# Altium footprint library Connector_Hirose.PcbLib: 136 footprints (part 5 of 9)
Each footprint in its own frame and in the unit in brackets; x right, y up, seen from the top. Pads: shape width x height; smd on the part's side, far side on the other; paste and mask are expansions set on the pad; w line width, h text height; cw(c..) or ccw(c..) is an arc to the next point about the centre after c.
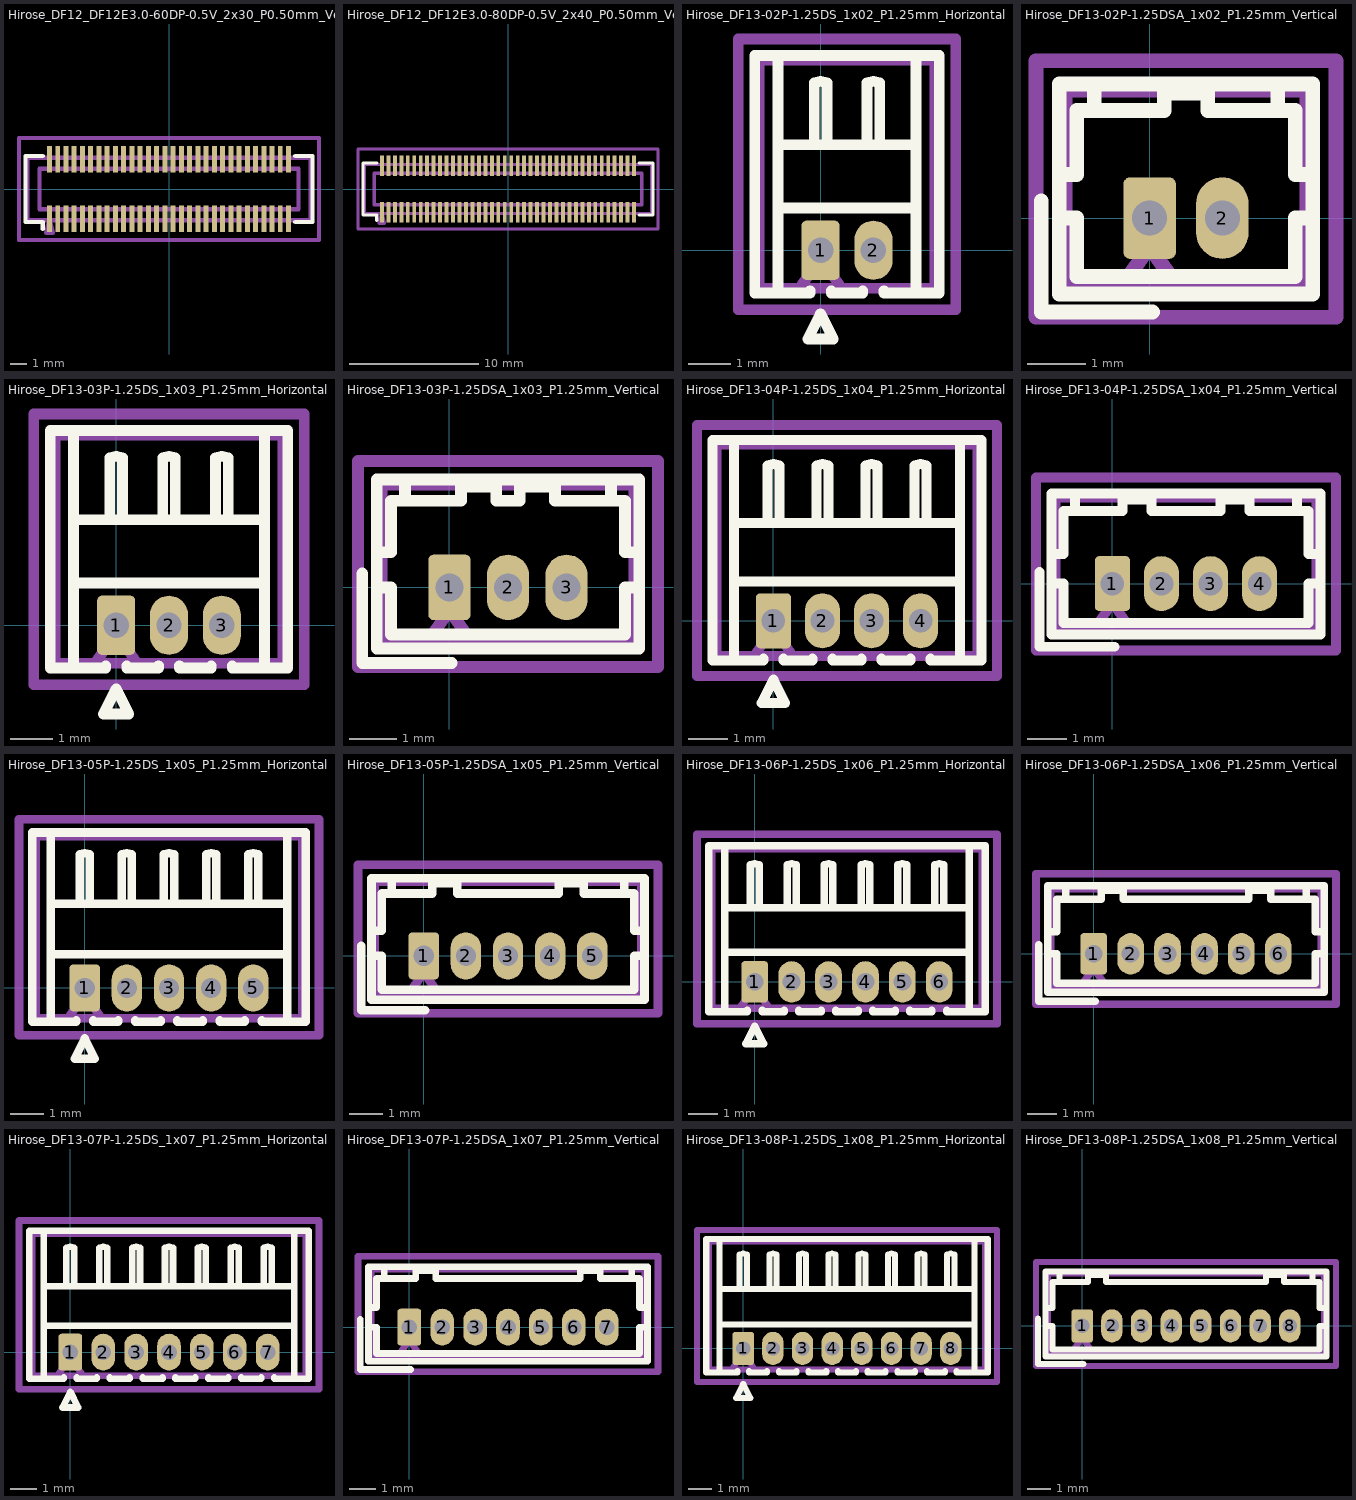
[diagram p4: the footprints below, top view; thin cyan lines are the x and y axes]

## Hirose_DF12_DF12E3.0-60DP-0.5V_2x30_P0.50mm_Vertical [mm]
pads (120):
  rect 0.3x1.6 smd: 1(-7.25,-1.8) 2(-6.75,-1.8) 3(-6.25,-1.8) 4(-5.75,-1.8) 5(-5.25,-1.8) 6(-4.75,-1.8) 7(-4.25,-1.8) 8(-3.75,-1.8) 9(-3.25,-1.8) 10(-2.75,-1.8) 11(-2.25,-1.8) 12(-1.75,-1.8) 13(-1.25,-1.8) 14(-0.75,-1.8) 15(-0.25,-1.8) 16(0.25,-1.8) 17(0.75,-1.8) 18(1.25,-1.8) 19(1.75,-1.8) 20(2.25,-1.8) 21(2.75,-1.8) 22(3.25,-1.8) 23(3.75,-1.8) 24(4.25,-1.8) 25(4.75,-1.8) 26(5.25,-1.8) 27(5.75,-1.8) 28(6.25,-1.8) 29(6.75,-1.8) 30(7.25,-1.8) 31(-7.25,1.8) 32(-6.75,1.8) 33(-6.25,1.8) 34(-5.75,1.8) 35(-5.25,1.8) 36(-4.75,1.8) 37(-4.25,1.8) 38(-3.75,1.8) 39(-3.25,1.8) 40(-2.75,1.8) 41(-2.25,1.8) 42(-1.75,1.8) 43(-1.25,1.8) 44(-0.75,1.8) 45(-0.25,1.8) 46(0.25,1.8) 47(0.75,1.8) 48(1.25,1.8) 49(1.75,1.8) 50(2.25,1.8) 51(2.75,1.8) 52(3.25,1.8) 53(3.75,1.8) 54(4.25,1.8) 55(4.75,1.8) 56(5.25,1.8) 57(5.75,1.8) 58(6.25,1.8) 59(6.75,1.8) 60(7.25,1.8)
  rect 0.28x1.2 on Top Paste: Un1(-7.25,2) Un2(-7.25,-2) Un3(-6.75,2) Un4(-6.75,-2) Un5(-6.25,2) Un6(-6.25,-2) Un7(-5.75,2) Un8(-5.75,-2) Un9(-5.25,2) Un10(-5.25,-2) Un11(-4.75,2) Un12(-4.75,-2) Un13(-4.25,2) Un14(-4.25,-2) Un15(-3.75,2) Un16(-3.75,-2) Un17(-3.25,2) Un18(-3.25,-2) Un19(-2.75,2) Un20(-2.75,-2) Un21(-2.25,2) Un22(-2.25,-2) Un23(-1.75,2) Un24(-1.75,-2) Un25(-1.25,2) Un26(-1.25,-2) Un27(-0.75,2) Un28(-0.75,-2) Un29(-0.25,2) Un30(-0.25,-2) Un31(0.25,2) Un32(0.25,-2) Un33(0.75,2) Un34(0.75,-2) Un35(1.25,2) Un36(1.25,-2) Un37(1.75,2) Un38(1.75,-2) Un39(2.25,2) Un40(2.25,-2) Un41(2.75,2) Un42(2.75,-2) Un43(3.25,2) Un44(3.25,-2) Un45(3.75,2) Un46(3.75,-2) Un47(4.25,2) Un48(4.25,-2) Un49(4.75,2) Un50(4.75,-2) Un51(5.25,2) Un52(5.25,-2) Un53(5.75,2) Un54(5.75,-2) Un55(6.25,2) Un56(6.25,-2) Un57(6.75,2) Un58(6.75,-2) Un59(7.25,2) Un60(7.25,-2)
F.SilkS:
  lines w0.254: -7.66,-2.433 -7.66,-2.01 -8.71,-2.01 -8.71,2.01 -7.66,2.01 ; 7.66,-2.01 8.71,-2.01 8.71,2.01 7.66,2.01
Top Assembly:
  lines w0.254: -8.6,-1.9 8.6,-1.9 8.6,1.9 -8.6,1.9 -8.6,-1.9 ; -7.85,-1.225 7.85,-1.225 7.85,1.225 -7.85,1.225 -7.85,-1.225 ; -7.45,-2.65 -7.05,-2.65 -7.25,-1.8 -7.45,-2.65
  text "'.Designator'" at -4.047,0.36 h1
Top Courtyard:
  lines w0.254: -9.1,-3.1 9.1,-3.1 9.1,3.1 -9.1,3.1 -9.1,-3.1
Top Designator:
  text ".Designator" at -7.618,-0.508 h1.52

## Hirose_DF12_DF12E3.0-80DP-0.5V_2x40_P0.50mm_Vertical [mm]
pads (160):
  rect 0.3x1.6 smd: 1(-9.75,-1.8) 2(-9.25,-1.8) 3(-8.75,-1.8) 4(-8.25,-1.8) 5(-7.75,-1.8) 6(-7.25,-1.8) 7(-6.75,-1.8) 8(-6.25,-1.8) 9(-5.75,-1.8) 10(-5.25,-1.8) 11(-4.75,-1.8) 12(-4.25,-1.8) 13(-3.75,-1.8) 14(-3.25,-1.8) 15(-2.75,-1.8) 16(-2.25,-1.8) 17(-1.75,-1.8) 18(-1.25,-1.8) 19(-0.75,-1.8) 20(-0.25,-1.8) 21(0.25,-1.8) 22(0.75,-1.8) 23(1.25,-1.8) 24(1.75,-1.8) 25(2.25,-1.8) 26(2.75,-1.8) 27(3.25,-1.8) 28(3.75,-1.8) 29(4.25,-1.8) 30(4.75,-1.8) 31(5.25,-1.8) 32(5.75,-1.8) 33(6.25,-1.8) 34(6.75,-1.8) 35(7.25,-1.8) 36(7.75,-1.8) 37(8.25,-1.8) 38(8.75,-1.8) 39(9.25,-1.8) 40(9.75,-1.8) 41(-9.75,1.8) 42(-9.25,1.8) 43(-8.75,1.8) 44(-8.25,1.8) 45(-7.75,1.8) 46(-7.25,1.8) 47(-6.75,1.8) 48(-6.25,1.8) 49(-5.75,1.8) 50(-5.25,1.8) 51(-4.75,1.8) 52(-4.25,1.8) 53(-3.75,1.8) 54(-3.25,1.8) 55(-2.75,1.8) 56(-2.25,1.8) 57(-1.75,1.8) 58(-1.25,1.8) 59(-0.75,1.8) 60(-0.25,1.8) 61(0.25,1.8) 62(0.75,1.8) 63(1.25,1.8) 64(1.75,1.8) 65(2.25,1.8) 66(2.75,1.8) 67(3.25,1.8) 68(3.75,1.8) 69(4.25,1.8) 70(4.75,1.8) 71(5.25,1.8) 72(5.75,1.8) 73(6.25,1.8) 74(6.75,1.8) 75(7.25,1.8) 76(7.75,1.8) 77(8.25,1.8) 78(8.75,1.8) 79(9.25,1.8) 80(9.75,1.8)
  rect 0.28x1.2 on Top Paste: Un1(-9.75,2) Un2(-9.75,-2) Un3(-9.25,2) Un4(-9.25,-2) Un5(-8.75,2) Un6(-8.75,-2) Un7(-8.25,2) Un8(-8.25,-2) Un9(-7.75,2) Un10(-7.75,-2) Un11(-7.25,2) Un12(-7.25,-2) Un13(-6.75,2) Un14(-6.75,-2) Un15(-6.25,2) Un16(-6.25,-2) Un17(-5.75,2) Un18(-5.75,-2) Un19(-5.25,2) Un20(-5.25,-2) Un21(-4.75,2) Un22(-4.75,-2) Un23(-4.25,2) Un24(-4.25,-2) Un25(-3.75,2) Un26(-3.75,-2) Un27(-3.25,2) Un28(-3.25,-2) Un29(-2.75,2) Un30(-2.75,-2) Un31(-2.25,2) Un32(-2.25,-2) Un33(-1.75,2) Un34(-1.75,-2) Un35(-1.25,2) Un36(-1.25,-2) Un37(-0.75,2) Un38(-0.75,-2) Un39(-0.25,2) Un40(-0.25,-2) Un41(0.25,2) Un42(0.25,-2) Un43(0.75,2) Un44(0.75,-2) Un45(1.25,2) Un46(1.25,-2) Un47(1.75,2) Un48(1.75,-2) Un49(2.25,2) Un50(2.25,-2) Un51(2.75,2) Un52(2.75,-2) Un53(3.25,2) Un54(3.25,-2) Un55(3.75,2) Un56(3.75,-2) Un57(4.25,2) Un58(4.25,-2) Un59(4.75,2) Un60(4.75,-2) Un61(5.25,2) Un62(5.25,-2) Un63(5.75,2) Un64(5.75,-2) Un65(6.25,2) Un66(6.25,-2) Un67(6.75,2) Un68(6.75,-2) Un69(7.25,2) Un70(7.25,-2) Un71(7.75,2) Un72(7.75,-2) Un73(8.25,2) Un74(8.25,-2) Un75(8.75,2) Un76(8.75,-2) Un77(9.25,2) Un78(9.25,-2) Un79(9.75,2) Un80(9.75,-2)
F.SilkS:
  lines w0.254: -10.16,-2.433 -10.16,-2.01 -11.21,-2.01 -11.21,2.01 -10.16,2.01 ; 10.16,-2.01 11.21,-2.01 11.21,2.01 10.16,2.01
Top Assembly:
  lines w0.254: -11.1,-1.9 11.1,-1.9 11.1,1.9 -11.1,1.9 -11.1,-1.9 ; -10.35,-1.225 10.35,-1.225 10.35,1.225 -10.35,1.225 -10.35,-1.225 ; -9.95,-2.65 -9.55,-2.65 -9.75,-1.8 -9.95,-2.65
  text "'.Designator'" at -4.047,0.36 h1
Top Courtyard:
  lines w0.254: -11.6,-3.1 11.6,-3.1 11.6,3.1 -11.6,3.1 -11.6,-3.1
Top Designator:
  text ".Designator" at -7.618,-0.508 h1.52

## Hirose_DF13-02P-1.25DS_1x02_P1.25mm_Horizontal [mm]
pads (2):
  rrect25% 0.9x1.4 hole 0.6: 1(0,0)
  rrect100% 0.9x1.4 hole 0.6: 2(1.25,0)
F.SilkS:
  lines w0.254: -1.01,-1.01 -1.01,4.61 ; -1.01,1 2.26,1 ; -1.01,2.5 2.26,2.5 ; -0.25,-0.96 -0.25,-1.01 -1.56,-1.01 -1.56,4.61 2.81,4.61 2.81,-1.01 1.5,-1.01 1.5,-0.96 ; -0.15,2.5 -0.15,3.962 0,4 0.15,3.962 0.15,2.5 ; 0.25,-0.96 0.25,-1.01 1,-1.01 1,-0.96 ; 1.1,2.5 1.1,3.962 1.25,4 1.4,3.962 1.4,2.5 ; 2.26,-1.01 2.26,4.61 ; -0.3,-2.1 0,-1.5 0.3,-2.1 -0.3,-2.1
Top Assembly:
  lines w0.254: -0.5,-0.9 0,-0.193 0.5,-0.9 ; -1.45,-0.9 2.7,-0.9 2.7,4.5 -1.45,4.5 -1.45,-0.9
  text "'.Designator'" at -3.427,2.96 h1
Top Courtyard:
  lines w0.254: -1.95,-1.41 3.2,-1.41 3.2,5 -1.95,5 -1.95,-1.41
Top Designator:
  text ".Designator" at -7.148,0.942 h1.52

## Hirose_DF13-02P-1.25DSA_1x02_P1.25mm_Vertical [mm]
pads (2):
  rrect25% 0.9x1.4 hole 0.6: 1(0,0)
  rrect100% 0.9x1.4 hole 0.6: 2(1.25,0)
F.SilkS:
  lines w0.254: -1.86,0.3 -1.86,-1.61 0.05,-1.61 ; -1.55,0 -1.25,0 -1.25,-1 2.5,-1 2.5,0 2.8,0 ; -1.55,0.75 -1.25,0.75 -1.25,1.85 -0.95,1.85 ; -0.95,2.3 -0.95,1.85 ; 2.2,2.3 2.2,1.85 ; 2.8,0.75 2.5,0.75 2.5,1.85 2.2,1.85 ; -0.95,1.85 0.25,1.85 0.25,2.15 1,2.15 1,1.85 2.2,1.85 ; -1.55,-1.3 2.8,-1.3 2.8,2.3 -1.55,2.3 -1.55,-1.3
Top Assembly:
  lines w0.254: -0.5,-1.2 0,-0.493 0.5,-1.2 ; -1.45,-1.2 2.7,-1.2 2.7,2.2 -1.45,2.2 -1.45,-1.2
  text "'.Designator'" at -3.427,0.66 h1
Top Courtyard:
  lines w0.254: -1.95,-1.7 3.2,-1.7 3.2,2.7 -1.95,2.7 -1.95,-1.7
Top Designator:
  text ".Designator" at -7.148,-0.008 h1.52

## Hirose_DF13-03P-1.25DS_1x03_P1.25mm_Horizontal [mm]
pads (3):
  rrect25% 0.9x1.4 hole 0.6: 1(0,0)
  rrect100% 0.9x1.4 hole 0.6: 2(1.25,0) 3(2.5,0)
F.SilkS:
  lines w0.254: -1.01,-1.01 -1.01,4.61 ; -1.01,1 3.51,1 ; -1.01,2.5 3.51,2.5 ; -0.25,-0.96 -0.25,-1.01 -1.56,-1.01 -1.56,4.61 4.06,4.61 4.06,-1.01 2.75,-1.01 2.75,-0.96 ; -0.15,2.5 -0.15,3.962 0,4 0.15,3.962 0.15,2.5 ; 0.25,-0.96 0.25,-1.01 1,-1.01 1,-0.96 ; 1.1,2.5 1.1,3.962 1.25,4 1.4,3.962 1.4,2.5 ; 1.5,-0.96 1.5,-1.01 2.25,-1.01 2.25,-0.96 ; 2.35,2.5 2.35,3.962 2.5,4 2.65,3.962 2.65,2.5 ; 3.51,-1.01 3.51,4.61 ; -0.3,-2.1 0,-1.5 0.3,-2.1 -0.3,-2.1
Top Assembly:
  lines w0.254: -0.5,-0.9 0,-0.193 0.5,-0.9 ; -1.45,-0.9 3.95,-0.9 3.95,4.5 -1.45,4.5 -1.45,-0.9
  text "'.Designator'" at -2.797,2.96 h1
Top Courtyard:
  lines w0.254: -1.95,-1.41 4.45,-1.41 4.45,5 -1.95,5 -1.95,-1.41
Top Designator:
  text ".Designator" at -6.518,0.942 h1.52

## Hirose_DF13-03P-1.25DSA_1x03_P1.25mm_Vertical [mm]
pads (3):
  rrect25% 0.9x1.4 hole 0.6: 1(0,0)
  rrect100% 0.9x1.4 hole 0.6: 2(1.25,0) 3(2.5,0)
F.SilkS:
  lines w0.254: -1.86,0.3 -1.86,-1.61 0.05,-1.61 ; -1.55,0 -1.25,0 -1.25,-1 3.75,-1 3.75,0 4.05,0 ; -1.55,0.75 -1.25,0.75 -1.25,1.85 -0.95,1.85 ; -0.95,2.3 -0.95,1.85 ; 3.45,2.3 3.45,1.85 ; 4.05,0.75 3.75,0.75 3.75,1.85 3.45,1.85 ; -0.95,1.85 0.25,1.85 0.25,2.15 1,2.15 1,1.85 1.5,1.85 1.5,2.15 2.25,2.15 2.25,1.85 3.45,1.85 ; -1.55,-1.3 4.05,-1.3 4.05,2.3 -1.55,2.3 -1.55,-1.3
Top Assembly:
  lines w0.254: -0.5,-1.2 0,-0.493 0.5,-1.2 ; -1.45,-1.2 3.95,-1.2 3.95,2.2 -1.45,2.2 -1.45,-1.2
  text "'.Designator'" at -2.797,0.66 h1
Top Courtyard:
  lines w0.254: -1.95,-1.7 4.45,-1.7 4.45,2.7 -1.95,2.7 -1.95,-1.7
Top Designator:
  text ".Designator" at -6.518,-0.008 h1.52

## Hirose_DF13-04P-1.25DS_1x04_P1.25mm_Horizontal [mm]
pads (4):
  rrect25% 0.9x1.4 hole 0.6: 1(0,0)
  rrect100% 0.9x1.4 hole 0.6: 2(1.25,0) 3(2.5,0) 4(3.75,0)
F.SilkS:
  lines w0.254: -1.01,-1.01 -1.01,4.61 ; -1.01,1 4.76,1 ; -1.01,2.5 4.76,2.5 ; -0.25,-0.96 -0.25,-1.01 -1.56,-1.01 -1.56,4.61 5.31,4.61 5.31,-1.01 4,-1.01 4,-0.96 ; -0.15,2.5 -0.15,3.962 0,4 0.15,3.962 0.15,2.5 ; 0.25,-0.96 0.25,-1.01 1,-1.01 1,-0.96 ; 1.1,2.5 1.1,3.962 1.25,4 1.4,3.962 1.4,2.5 ; 1.5,-0.96 1.5,-1.01 2.25,-1.01 2.25,-0.96 ; 2.35,2.5 2.35,3.962 2.5,4 2.65,3.962 2.65,2.5 ; 2.75,-0.96 2.75,-1.01 3.5,-1.01 3.5,-0.96 ; 3.6,2.5 3.6,3.962 3.75,4 3.9,3.962 3.9,2.5 ; 4.76,-1.01 4.76,4.61 ; -0.3,-2.1 0,-1.5 0.3,-2.1 -0.3,-2.1
Top Assembly:
  lines w0.254: -0.5,-0.9 0,-0.193 0.5,-0.9 ; -1.45,-0.9 5.2,-0.9 5.2,4.5 -1.45,4.5 -1.45,-0.9
  text "'.Designator'" at -2.167,2.96 h1
Top Courtyard:
  lines w0.254: -1.95,-1.41 5.7,-1.41 5.7,5 -1.95,5 -1.95,-1.41
Top Designator:
  text ".Designator" at -5.862,0.942 h1.52

## Hirose_DF13-04P-1.25DSA_1x04_P1.25mm_Vertical [mm]
pads (4):
  rrect25% 0.9x1.4 hole 0.6: 1(0,0)
  rrect100% 0.9x1.4 hole 0.6: 2(1.25,0) 3(2.5,0) 4(3.75,0)
F.SilkS:
  lines w0.254: -1.86,0.3 -1.86,-1.61 0.05,-1.61 ; -1.55,0 -1.25,0 -1.25,-1 5,-1 5,0 5.3,0 ; -1.55,0.75 -1.25,0.75 -1.25,1.85 -0.95,1.85 ; -0.95,2.3 -0.95,1.85 ; 4.7,2.3 4.7,1.85 ; 5.3,0.75 5,0.75 5,1.85 4.7,1.85 ; -0.95,1.85 0.25,1.85 0.25,2.15 1,2.15 1,1.85 2.75,1.85 2.75,2.15 3.5,2.15 3.5,1.85 4.7,1.85 ; -1.55,-1.3 5.3,-1.3 5.3,2.3 -1.55,2.3 -1.55,-1.3
Top Assembly:
  lines w0.254: -0.5,-1.2 0,-0.493 0.5,-1.2 ; -1.45,-1.2 5.2,-1.2 5.2,2.2 -1.45,2.2 -1.45,-1.2
  text "'.Designator'" at -2.167,0.66 h1
Top Courtyard:
  lines w0.254: -1.95,-1.7 5.7,-1.7 5.7,2.7 -1.95,2.7 -1.95,-1.7
Top Designator:
  text ".Designator" at -5.862,-0.008 h1.52

## Hirose_DF13-05P-1.25DS_1x05_P1.25mm_Horizontal [mm]
pads (5):
  rrect25% 0.9x1.4 hole 0.6: 1(0,0)
  rrect100% 0.9x1.4 hole 0.6: 2(1.25,0) 3(2.5,0) 4(3.75,0) 5(5,0)
F.SilkS:
  lines w0.254: -1.01,-1.01 -1.01,4.61 ; -1.01,1 6.01,1 ; -1.01,2.5 6.01,2.5 ; -0.25,-0.96 -0.25,-1.01 -1.56,-1.01 -1.56,4.61 6.56,4.61 6.56,-1.01 5.25,-1.01 5.25,-0.96 ; -0.15,2.5 -0.15,3.962 0,4 0.15,3.962 0.15,2.5 ; 0.25,-0.96 0.25,-1.01 1,-1.01 1,-0.96 ; 1.1,2.5 1.1,3.962 1.25,4 1.4,3.962 1.4,2.5 ; 1.5,-0.96 1.5,-1.01 2.25,-1.01 2.25,-0.96 ; 2.35,2.5 2.35,3.962 2.5,4 2.65,3.962 2.65,2.5 ; 2.75,-0.96 2.75,-1.01 3.5,-1.01 3.5,-0.96 ; 3.6,2.5 3.6,3.962 3.75,4 3.9,3.962 3.9,2.5 ; 4,-0.96 4,-1.01 4.75,-1.01 4.75,-0.96 ; 4.85,2.5 4.85,3.962 5,4 5.15,3.962 5.15,2.5 ; 6.01,-1.01 6.01,4.61 ; -0.3,-2.1 0,-1.5 0.3,-2.1 -0.3,-2.1
Top Assembly:
  lines w0.254: -0.5,-0.9 0,-0.193 0.5,-0.9 ; -1.45,-0.9 6.45,-0.9 6.45,4.5 -1.45,4.5 -1.45,-0.9
  text "'.Designator'" at -1.547,2.96 h1
Top Courtyard:
  lines w0.254: -1.95,-1.41 6.95,-1.41 6.95,5 -1.95,5 -1.95,-1.41
Top Designator:
  text ".Designator" at -5.118,0.942 h1.52

## Hirose_DF13-05P-1.25DSA_1x05_P1.25mm_Vertical [mm]
pads (5):
  rrect25% 0.9x1.4 hole 0.6: 1(0,0)
  rrect100% 0.9x1.4 hole 0.6: 2(1.25,0) 3(2.5,0) 4(3.75,0) 5(5,0)
F.SilkS:
  lines w0.254: -1.86,0.3 -1.86,-1.61 0.05,-1.61 ; -1.55,0 -1.25,0 -1.25,-1 6.25,-1 6.25,0 6.55,0 ; -1.55,0.75 -1.25,0.75 -1.25,1.85 -0.95,1.85 ; -0.95,2.3 -0.95,1.85 ; 5.95,2.3 5.95,1.85 ; 6.55,0.75 6.25,0.75 6.25,1.85 5.95,1.85 ; -0.95,1.85 0.25,1.85 0.25,2.15 1,2.15 1,1.85 4,1.85 4,2.15 4.75,2.15 4.75,1.85 5.95,1.85 ; -1.55,-1.3 6.55,-1.3 6.55,2.3 -1.55,2.3 -1.55,-1.3
Top Assembly:
  lines w0.254: -0.5,-1.2 0,-0.493 0.5,-1.2 ; -1.45,-1.2 6.45,-1.2 6.45,2.2 -1.45,2.2 -1.45,-1.2
  text "'.Designator'" at -1.547,0.66 h1
Top Courtyard:
  lines w0.254: -1.95,-1.7 6.95,-1.7 6.95,2.7 -1.95,2.7 -1.95,-1.7
Top Designator:
  text ".Designator" at -5.118,-0.008 h1.52

## Hirose_DF13-06P-1.25DS_1x06_P1.25mm_Horizontal [mm]
pads (6):
  rrect25% 0.9x1.4 hole 0.6: 1(0,0)
  rrect100% 0.9x1.4 hole 0.6: 2(1.25,0) 3(2.5,0) 4(3.75,0) 5(5,0) 6(6.25,0)
F.SilkS:
  lines w0.254: -1.01,-1.01 -1.01,4.61 ; -1.01,1 7.26,1 ; -1.01,2.5 7.26,2.5 ; -0.25,-0.96 -0.25,-1.01 -1.56,-1.01 -1.56,4.61 7.81,4.61 7.81,-1.01 6.5,-1.01 6.5,-0.96 ; -0.15,2.5 -0.15,3.962 0,4 0.15,3.962 0.15,2.5 ; 0.25,-0.96 0.25,-1.01 1,-1.01 1,-0.96 ; 1.1,2.5 1.1,3.962 1.25,4 1.4,3.962 1.4,2.5 ; 1.5,-0.96 1.5,-1.01 2.25,-1.01 2.25,-0.96 ; 2.35,2.5 2.35,3.962 2.5,4 2.65,3.962 2.65,2.5 ; 2.75,-0.96 2.75,-1.01 3.5,-1.01 3.5,-0.96 ; 3.6,2.5 3.6,3.962 3.75,4 3.9,3.962 3.9,2.5 ; 4,-0.96 4,-1.01 4.75,-1.01 4.75,-0.96 ; 4.85,2.5 4.85,3.962 5,4 5.15,3.962 5.15,2.5 ; 5.25,-0.96 5.25,-1.01 6,-1.01 6,-0.96 ; 6.1,2.5 6.1,3.962 6.25,4 6.4,3.962 6.4,2.5 ; 7.26,-1.01 7.26,4.61 ; -0.3,-2.1 0,-1.5 0.3,-2.1 -0.3,-2.1
Top Assembly:
  lines w0.254: -0.5,-0.9 0,-0.193 0.5,-0.9 ; -1.45,-0.9 7.7,-0.9 7.7,4.5 -1.45,4.5 -1.45,-0.9
  text "'.Designator'" at -0.927,2.96 h1
Top Courtyard:
  lines w0.254: -1.95,-1.41 8.2,-1.41 8.2,5 -1.95,5 -1.95,-1.41
Top Designator:
  text ".Designator" at -4.493,0.942 h1.52

## Hirose_DF13-06P-1.25DSA_1x06_P1.25mm_Vertical [mm]
pads (6):
  rrect25% 0.9x1.4 hole 0.6: 1(0,0)
  rrect100% 0.9x1.4 hole 0.6: 2(1.25,0) 3(2.5,0) 4(3.75,0) 5(5,0) 6(6.25,0)
F.SilkS:
  lines w0.254: -1.86,0.3 -1.86,-1.61 0.05,-1.61 ; -1.55,0 -1.25,0 -1.25,-1 7.5,-1 7.5,0 7.8,0 ; -1.55,0.75 -1.25,0.75 -1.25,1.85 -0.95,1.85 ; -0.95,2.3 -0.95,1.85 ; 7.2,2.3 7.2,1.85 ; 7.8,0.75 7.5,0.75 7.5,1.85 7.2,1.85 ; -0.95,1.85 0.25,1.85 0.25,2.15 1,2.15 1,1.85 5.25,1.85 5.25,2.15 6,2.15 6,1.85 7.2,1.85 ; -1.55,-1.3 7.8,-1.3 7.8,2.3 -1.55,2.3 -1.55,-1.3
Top Assembly:
  lines w0.254: -0.5,-1.2 0,-0.493 0.5,-1.2 ; -1.45,-1.2 7.7,-1.2 7.7,2.2 -1.45,2.2 -1.45,-1.2
  text "'.Designator'" at -0.927,0.66 h1
Top Courtyard:
  lines w0.254: -1.95,-1.7 8.2,-1.7 8.2,2.7 -1.95,2.7 -1.95,-1.7
Top Designator:
  text ".Designator" at -4.493,-0.008 h1.52

## Hirose_DF13-07P-1.25DS_1x07_P1.25mm_Horizontal [mm]
pads (7):
  rrect25% 0.9x1.4 hole 0.6: 1(0,0)
  rrect100% 0.9x1.4 hole 0.6: 2(1.25,0) 3(2.5,0) 4(3.75,0) 5(5,0) 6(6.25,0) 7(7.5,0)
F.SilkS:
  lines w0.254: -1.01,-1.01 -1.01,4.61 ; -1.01,1 8.51,1 ; -1.01,2.5 8.51,2.5 ; -0.25,-0.96 -0.25,-1.01 -1.56,-1.01 -1.56,4.61 9.06,4.61 9.06,-1.01 7.75,-1.01 7.75,-0.96 ; -0.15,2.5 -0.15,3.962 0,4 0.15,3.962 0.15,2.5 ; 0.25,-0.96 0.25,-1.01 1,-1.01 1,-0.96 ; 1.1,2.5 1.1,3.962 1.25,4 1.4,3.962 1.4,2.5 ; 1.5,-0.96 1.5,-1.01 2.25,-1.01 2.25,-0.96 ; 2.35,2.5 2.35,3.962 2.5,4 2.65,3.962 2.65,2.5 ; 2.75,-0.96 2.75,-1.01 3.5,-1.01 3.5,-0.96 ; 3.6,2.5 3.6,3.962 3.75,4 3.9,3.962 3.9,2.5 ; 4,-0.96 4,-1.01 4.75,-1.01 4.75,-0.96 ; 4.85,2.5 4.85,3.962 5,4 5.15,3.962 5.15,2.5 ; 5.25,-0.96 5.25,-1.01 6,-1.01 6,-0.96 ; 6.1,2.5 6.1,3.962 6.25,4 6.4,3.962 6.4,2.5 ; 6.5,-0.96 6.5,-1.01 7.25,-1.01 7.25,-0.96 ; 7.35,2.5 7.35,3.962 7.5,4 7.65,3.962 7.65,2.5 ; 8.51,-1.01 8.51,4.61 ; -0.3,-2.1 0,-1.5 0.3,-2.1 -0.3,-2.1
Top Assembly:
  lines w0.254: -0.5,-0.9 0,-0.193 0.5,-0.9 ; -1.45,-0.9 8.95,-0.9 8.95,4.5 -1.45,4.5 -1.45,-0.9
  text "'.Designator'" at -0.297,2.96 h1
Top Courtyard:
  lines w0.254: -1.95,-1.41 9.45,-1.41 9.45,5 -1.95,5 -1.95,-1.41
Top Designator:
  text ".Designator" at -3.868,0.942 h1.52

## Hirose_DF13-07P-1.25DSA_1x07_P1.25mm_Vertical [mm]
pads (7):
  rrect25% 0.9x1.4 hole 0.6: 1(0,0)
  rrect100% 0.9x1.4 hole 0.6: 2(1.25,0) 3(2.5,0) 4(3.75,0) 5(5,0) 6(6.25,0) 7(7.5,0)
F.SilkS:
  lines w0.254: -1.86,0.3 -1.86,-1.61 0.05,-1.61 ; -1.55,0 -1.25,0 -1.25,-1 8.75,-1 8.75,0 9.05,0 ; -1.55,0.75 -1.25,0.75 -1.25,1.85 -0.95,1.85 ; -0.95,2.3 -0.95,1.85 ; 8.45,2.3 8.45,1.85 ; 9.05,0.75 8.75,0.75 8.75,1.85 8.45,1.85 ; -0.95,1.85 0.25,1.85 0.25,2.15 1,2.15 1,1.85 6.5,1.85 6.5,2.15 7.25,2.15 7.25,1.85 8.45,1.85 ; -1.55,-1.3 9.05,-1.3 9.05,2.3 -1.55,2.3 -1.55,-1.3
Top Assembly:
  lines w0.254: -0.5,-1.2 0,-0.493 0.5,-1.2 ; -1.45,-1.2 8.95,-1.2 8.95,2.2 -1.45,2.2 -1.45,-1.2
  text "'.Designator'" at -0.297,0.66 h1
Top Courtyard:
  lines w0.254: -1.95,-1.7 9.45,-1.7 9.45,2.7 -1.95,2.7 -1.95,-1.7
Top Designator:
  text ".Designator" at -3.868,-0.008 h1.52

## Hirose_DF13-08P-1.25DS_1x08_P1.25mm_Horizontal [mm]
pads (8):
  rrect25% 0.9x1.4 hole 0.6: 1(0,0)
  rrect100% 0.9x1.4 hole 0.6: 2(1.25,0) 3(2.5,0) 4(3.75,0) 5(5,0) 6(6.25,0) 7(7.5,0) 8(8.75,0)
F.SilkS:
  lines w0.254: -1.01,-1.01 -1.01,4.61 ; -1.01,1 9.76,1 ; -1.01,2.5 9.76,2.5 ; -0.25,-0.96 -0.25,-1.01 -1.56,-1.01 -1.56,4.61 10.31,4.61 10.31,-1.01 9,-1.01 9,-0.96 ; -0.15,2.5 -0.15,3.962 0,4 0.15,3.962 0.15,2.5 ; 0.25,-0.96 0.25,-1.01 1,-1.01 1,-0.96 ; 1.1,2.5 1.1,3.962 1.25,4 1.4,3.962 1.4,2.5 ; 1.5,-0.96 1.5,-1.01 2.25,-1.01 2.25,-0.96 ; 2.35,2.5 2.35,3.962 2.5,4 2.65,3.962 2.65,2.5 ; 2.75,-0.96 2.75,-1.01 3.5,-1.01 3.5,-0.96 ; 3.6,2.5 3.6,3.962 3.75,4 3.9,3.962 3.9,2.5 ; 4,-0.96 4,-1.01 4.75,-1.01 4.75,-0.96 ; 4.85,2.5 4.85,3.962 5,4 5.15,3.962 5.15,2.5 ; 5.25,-0.96 5.25,-1.01 6,-1.01 6,-0.96 ; 6.1,2.5 6.1,3.962 6.25,4 6.4,3.962 6.4,2.5 ; 6.5,-0.96 6.5,-1.01 7.25,-1.01 7.25,-0.96 ; 7.35,2.5 7.35,3.962 7.5,4 7.65,3.962 7.65,2.5 ; 7.75,-0.96 7.75,-1.01 8.5,-1.01 8.5,-0.96 ; 8.6,2.5 8.6,3.962 8.75,4 8.9,3.962 8.9,2.5 ; 9.76,-1.01 9.76,4.61 ; -0.3,-2.1 0,-1.5 0.3,-2.1 -0.3,-2.1
Top Assembly:
  lines w0.254: -0.5,-0.9 0,-0.193 0.5,-0.9 ; -1.45,-0.9 10.2,-0.9 10.2,4.5 -1.45,4.5 -1.45,-0.9
  text "'.Designator'" at 0.333,2.96 h1
Top Courtyard:
  lines w0.254: -1.95,-1.41 10.7,-1.41 10.7,5 -1.95,5 -1.95,-1.41
Top Designator:
  text ".Designator" at -3.243,0.942 h1.52

## Hirose_DF13-08P-1.25DSA_1x08_P1.25mm_Vertical [mm]
pads (8):
  rrect25% 0.9x1.4 hole 0.6: 1(0,0)
  rrect100% 0.9x1.4 hole 0.6: 2(1.25,0) 3(2.5,0) 4(3.75,0) 5(5,0) 6(6.25,0) 7(7.5,0) 8(8.75,0)
F.SilkS:
  lines w0.254: -1.86,0.3 -1.86,-1.61 0.05,-1.61 ; -1.55,0 -1.25,0 -1.25,-1 10,-1 10,0 10.3,0 ; -1.55,0.75 -1.25,0.75 -1.25,1.85 -0.95,1.85 ; -0.95,2.3 -0.95,1.85 ; 9.7,2.3 9.7,1.85 ; 10.3,0.75 10,0.75 10,1.85 9.7,1.85 ; -0.95,1.85 0.25,1.85 0.25,2.15 1,2.15 1,1.85 7.75,1.85 7.75,2.15 8.5,2.15 8.5,1.85 9.7,1.85 ; -1.55,-1.3 10.3,-1.3 10.3,2.3 -1.55,2.3 -1.55,-1.3
Top Assembly:
  lines w0.254: -0.5,-1.2 0,-0.493 0.5,-1.2 ; -1.45,-1.2 10.2,-1.2 10.2,2.2 -1.45,2.2 -1.45,-1.2
  text "'.Designator'" at 0.333,0.66 h1
Top Courtyard:
  lines w0.254: -1.95,-1.7 10.7,-1.7 10.7,2.7 -1.95,2.7 -1.95,-1.7
Top Designator:
  text ".Designator" at -3.243,-0.008 h1.52